# Altium schematic symbol library DMG6968U-7.SchLib: 1 symbol
Pins are listed as number, name and electrical type; pins without a type are passive.

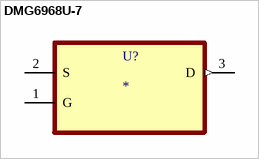
[diagram p0: symbol DMG6968U-7]

## DMG6968U-7
designator U?
N-CHANNEL ENHANCEMENT MODE MOSFET; MP: DMG6968U-7; MF: {'manufacturer': u'Diodes Inc.'}; Package: None; Value: *; Price: None; Availability: Unavailable
footprint SOT95P240X110-3N
pins: 1 G (power), 2 S, 3 D (out)